# Altium footprint library 625-7268.PCBLIB: 1 footprints
Each footprint in its own frame and in the unit in brackets; x right, y up, seen from the top. Pads: shape width x height; smd on the part's side, far side on the other; paste and mask are expansions set on the pad; w line width, h text height; cw(c..) or ccw(c..) is an arc to the next point about the centre after c.
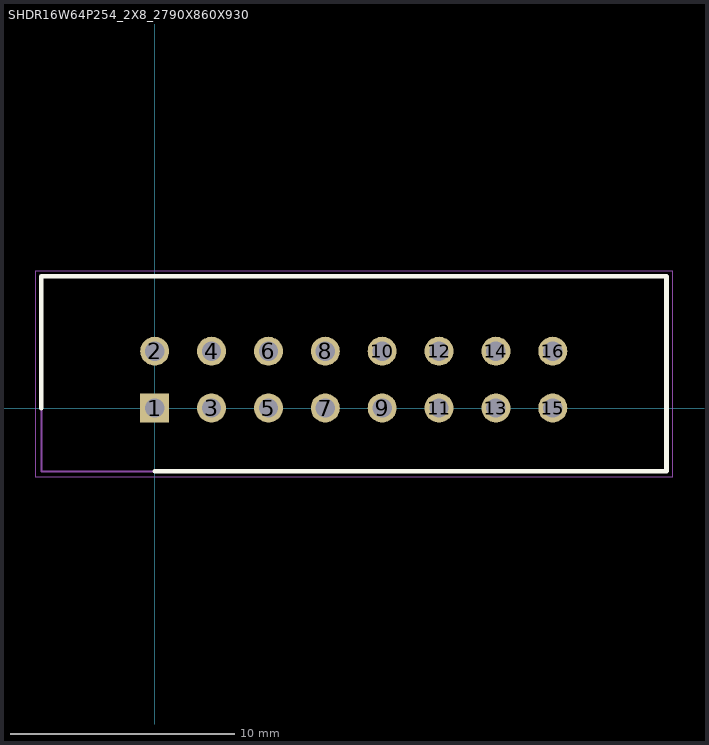
[diagram p0: the footprint, top view; thin cyan lines are the x and y axes]

## SHDR16W64P254_2X8_2790X860X930 [mil]
pads (16):
  rect 51x51 hole 34: 1(0,0)
  round 51 hole 34: 2(0,100) 3(100,0) 4(100,100) 5(200,0) 6(200,100) 7(300,0) 8(300,100) 9(400,0) 10(400,100) 11(500,0) 12(500,100) 13(600,0) 14(600,100) 15(700,0) 16(700,100)
Top Overlay:
  lines w8: -199.21,0 -199.21,232 900,232 900,-111.42 0,-111.42
Courtyard Bottom:
  lines w2: -209.06,-121.26 -209.06,241 910,241 910,-121.26 -209.06,-121.26
  lines w4: -199.21,-111.42 -199.21,232 900,232 900,-111.42 -199.21,-111.42